# Altium schematic symbol library 51常用（2）.SchLib: 45 symbols
Pins are listed as number, name and electrical type; pins without a type are passive.

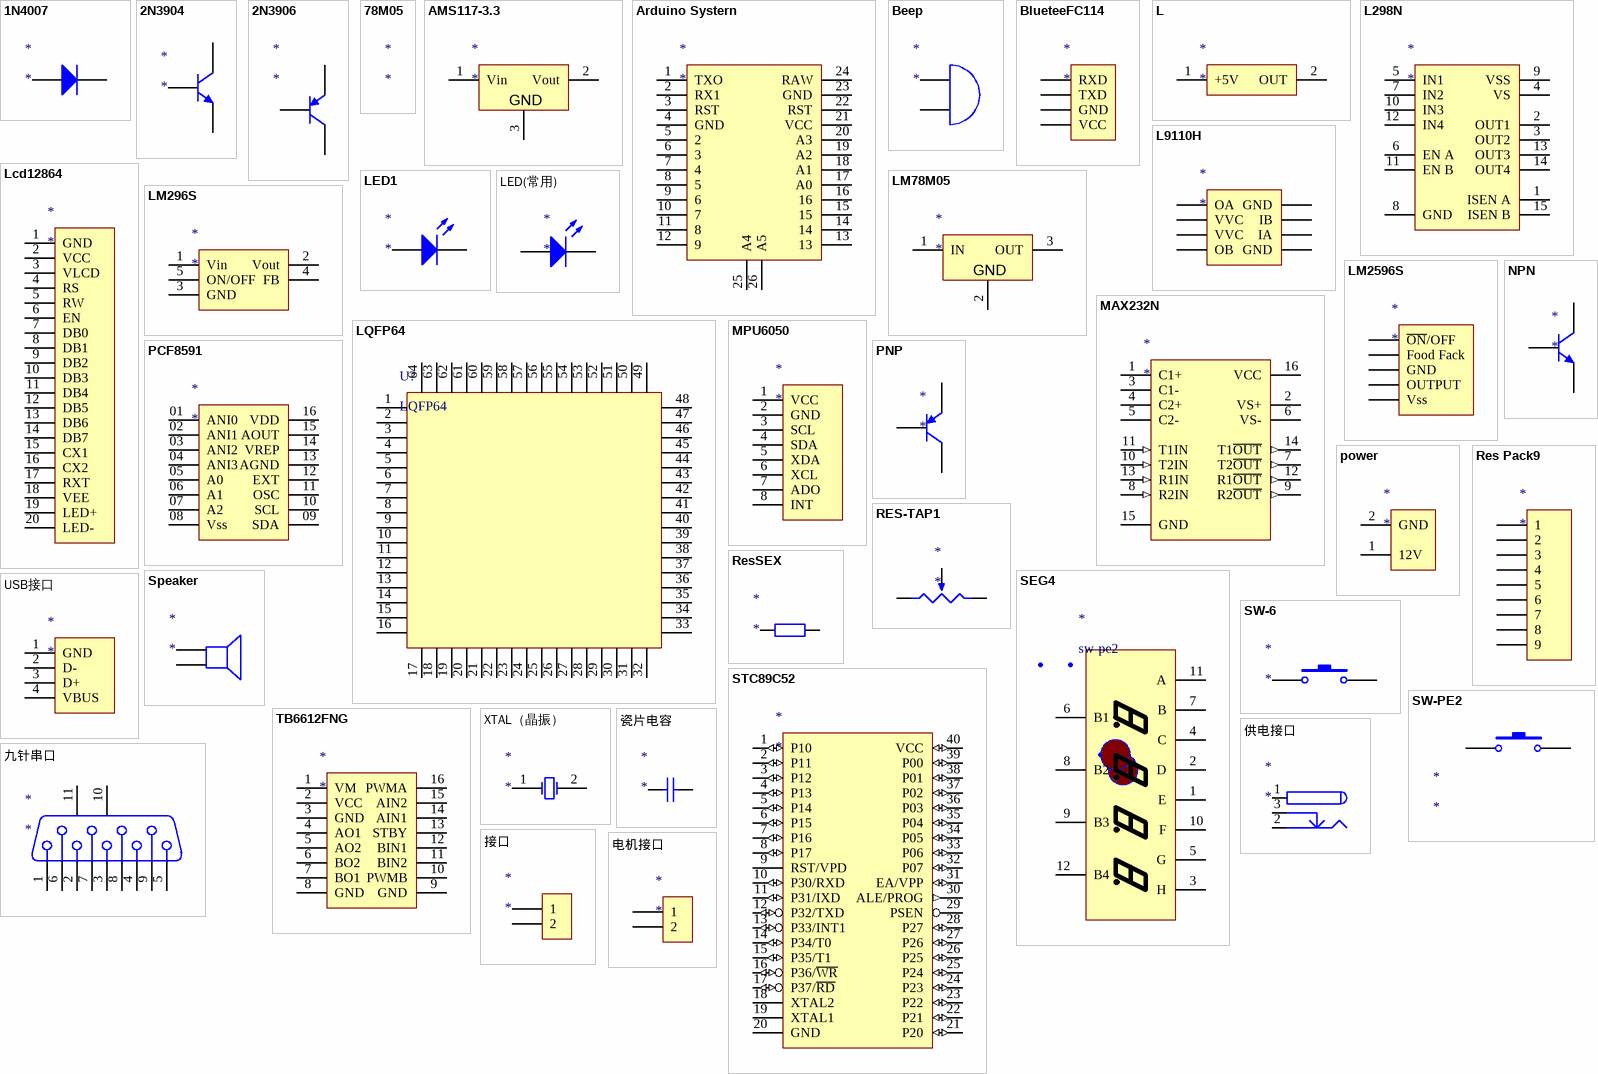
[diagram p0: symbols 1N4007 to 电机接口]

## 1N4007
designator *
footprint 1N4007 (二极管)
pins: 1 A, 2 K

## 2N3904
designator *
footprint 2N3904/2N3906
pins: 1 E, 2 B, 3 C

## 2N3906
designator *
footprint 2N3904/2N3906
pins: 1 E, 2 B, 3 C

## 78M05
designator *
footprint 78M05

## AMS117-3.3
designator *
footprint AMS117-3.3
pins: 1 Vin, 2 Vout, 3 Vout
text: GND

## Arduino Systern
designator *
footprint ArduinoSystern
pins: 1 TXO, 2 RX1, 3 RST, 4 GND, 5 2, 6 3, 7 4, 8 5, 9 6, 10 7, 11 8, 12 9, 13, 14, 15, 16, 17 A0, 18 A1, 19 A2, 20 A3, 21 VCC, 22 RST, 23 GND, 24 RAW, 25 A4, 26 A5

## Beep
designator *
footprint Beep
pins: 1 A, 2 B

## BlueteeFC114
designator *
footprint BlueteeFC114
pins: 1 RXD, 2 TXD, 3 GND, 4 VCC

## L
designator *
footprint L
pins: 1 +5V, 2 OUT

## L298N
designator *
footprint L298N
pins: 1 ISEN A, 2 OUT1, 3 OUT2, 4 VS, 5 IN1, 6 EN A, 7 IN2, 8 GND, 9 VSS, 10 IN3, 11 EN B, 12 IN4, 13 OUT3, 14 OUT4, 15 ISEN B

## L9110H
designator *
footprint L9110H
pins: 1 OA, 2 VVC, 3 VVC, 4 OB, 5 GND, 6 IB, 7 IA, 8 GND

## Lcd12864
designator *
footprint LCD12864
pins: 1 GND, 2 VCC, 3 VLCD, 4 RS, 5 RW, 6 EN, 7 DB0, 8 DB1, 9 DB2, 10 DB3, 11 DB4, 12 DB5, 13 DB6, 14 DB7, 15 CX1, 16 CX2, 17 RXT, 18 VEE, 19 LED+, 20 LED-

## LED1
designator *
footprint LED1 (电源指示灯   透明)
pins: 1 A, 2 K

## LED(常用)
designator *
footprint LED1 (电源指示灯   透明)
pins: 1 A, 2 K

## LM78M05
designator *
footprint LM78M05
pins: 1 IN, 2 GND, 3 OUT

## LM296S
designator *
footprint LM296S
pins: 1 Vin, 2 Vout, 3 GND , 4 FB, 5 ON/OFF

## LM2596S
designator *
footprint LM2596
pins: 1 Vss, 2 OUTPUT, 3 GND, 4 Food Fack, 5 ~{ON}/OFF

## LQFP64
designator U?
footprint LQFP64
pins: 1, 2 12, 3 13, 4 14, 5 15, 6 16, 7 17, 8 18, 9 19, 10 20, 11 21, 12 22, 13 23, 14 24, 15 25, 16 26, 17, 18, 19, 20, 21, 22, 23, 24, 25, 26, 27, 28, 29, 30, 31, 32, 33, 34, 35, 36, 37, 38, 39, 40, 41, 42, 43, 44, 45, 46, 47, 48, 49, 50, 51, 52, 53, 54, 55, 56, 57, 58, 59, 60, 61, 62, 63, 64

## MAX232N
designator *
footprint MAX232N
pins: 1 C1+, 2 VS+, 3 C1-, 4 C2+, 5 C2-, 6 VS-, 7 T2~{OUT} (out), 8 R2IN (in), 9 R2~{OUT} (out), 10 T2IN (in), 11 T1IN (in), 12 R1~{OUT} (out), 13 R1IN (in), 14 T1~{OUT} (out), 15 GND, 16 VCC

## MPU6050
designator *
footprint MPU6050
pins: 1 VCC, 2 GND, 3 SCL, 4 SDA, 5 XDA, 6 XCL, 7 ADO, 8 INT

## NPN
designator *
footprint PNP
pins: 1 E, 2 B, 3 C

## PCF8591
designator *
footprint PCF8591
pins: 01 ANI0, 02 ANI1, 03 ANI2, 04 ANI3, 05 A0, 06 A1, 07 A2, 08 Vss, 09 SDA, 10 SCL, 11 OSC, 12 EXT, 13 AGND, 14 VREP, 15 AOUT, 16 VDD

## PNP
designator *
footprint PNP
pins: 1 C, 2 B, 3 E

## power
designator *
footprint POWER
pins: 1 12V, 2 GND

## Res Pack9
designator *
footprint ResPack9
pins: 1, 2, 3, 4, 5, 6, 7, 8, 9

## RES-TAP1
designator *
footprint RES-TAP1
pins: 1 A, 2 B, 3 TAP

## ResSEX
designator *
footprint RES1K
pins: 1, 2

## SEG4
designator *, comment sw-pe2
pins: 1 E, 2 D, 3 H, 4 C, 5 G, 6 B1, 7 B, 8 B2, 9 B3, 10 F, 11 A, 12 B4

## Speaker
designator *
footprint Speaker (黑色，二层，顶视图为圆环，)
pins: 1, 2

## STC89C52
designator *
footprint STC89C5X
pins: 1 P10 (io), 2 P11 (io), 3 P12 (io), 4 P13 (io), 5 P14 (io), 6 P15 (io), 7 P16 (io), 8 P17 (io), 9 RST/VPD, 10 P30/RXD (io), 11 P31/IXD (io), 12 P32/TXD (io), 13 P33/INT1 (io), 14 P34/T0 (io), 15 P35/T1 (io), 16 P36/~{WR} (io), 17 P37/~{RD} (io), 18 XTAL2, 19 XTAL1, 20 GND, 21 P20 (io), 22 P21 (io), 23 P22 (io), 24 P23 (io), 25 P24 (io), 26 P25 (io), 27 P26 (io), 28 P27 (io), 29 PSEN, 30 ALE/PROG (out), 31 EA/VPP (io), 32 P07 (io), 33 P06 (io), 34 P05 (io), 35 P04 (io), 36 P03 (io), 37 P02 (io), 38 P01 (io), 39 P00 (io), 40 VCC (io)

## SW-6
designator *
footprint SW-6
pins: 1, 2

## SW-PE2
designator *
footprint KEYTOUCH (轻触开关)
pins: 1, 2

## TB6612FNG
designator *
footprint TB6612FNG
pins: 1 VM, 2 VCC, 3 GND, 4 AO1, 5 AO2, 6 BO2, 7 BO1, 8 GND, 9 GND, 10 PWMB, 11 BIN2, 12 BIN1, 13 STBY, 14 AIN1, 15 AIN2, 16 PWMA

## USB接口
designator *
footprint USB接口
pins: 1 GND, 2 D-, 3 D+, 4 VBUS

## XTAL（晶振）
designator *
footprint XTAL
pins: 1 OSC1, 2 OSC2

## 九针串口
designator *
footprint 九针串口
pins: 1, 2, 3, 4, 5, 6, 7, 8, 9, 10 MH1, 11 MH2

## 供电接口
designator *
footprint 供电接口
pins: 1 (power), 1A (power), 1B (power), 2 (power), 2A (power), 2B (power), 3 (power), 3A (power), 3B (power)

## 接口
designator *
footprint 接口 (绿色)
pins: 1, 2

## 瓷片电容
designator *
footprint 瓷片电容 (104)
pins: 1, 2

## 电机接口
designator *
footprint 电机接口2
pins: 1, 2

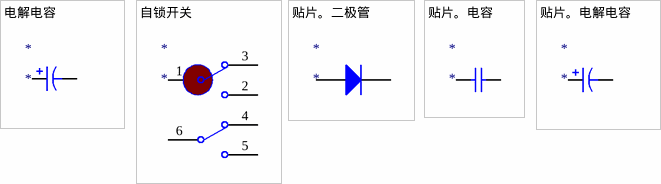
[diagram p1: symbols 电解电容 to 贴片。电解电容]

## 电解电容
designator *
footprint 电解电容
pins: 1, 2

## 自锁开关
designator *
footprint 自锁开关
pins: 1, 2, 3, 4, 5, 6

## 贴片。二极管
designator *
footprint 贴片。二极管
pins: 1 A, 2 K

## 贴片。电容
designator *
footprint 贴片电容
pins: 1, 2

## 贴片。电解电容
designator *
footprint 贴片。电解电容
pins: 1, 2